# EAGLE library part LM358M (library analog)
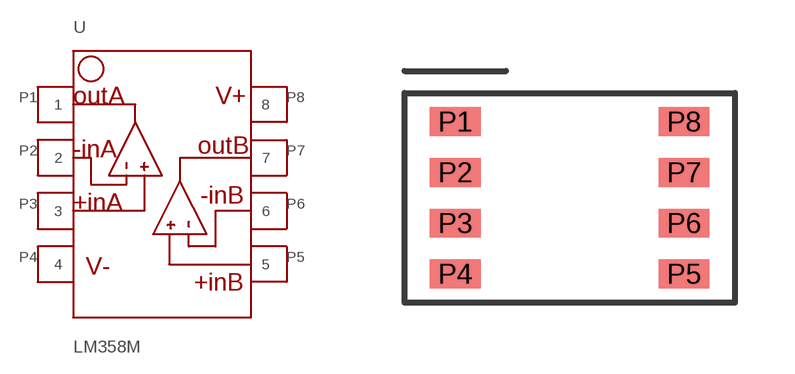
[diagram p0: symbol with the pads of SOP8; footprint SOP8]

Designator prefix U

## LM358M  [SOP8]
P1  1
P2  2
P3  3
P4  4
P5  5
P6  6
P7  7
P8  8

## Footprint SOP8 (pad centres in mm)
smd 1.27 x 0.72: P1 0,0; P2 0,-1.27; P3 0,-2.54; P4 0,-3.81; P5 5.72,-3.81; P6 5.72,-2.54; P7 5.72,-1.27; P8 5.72,0